# Altium integrated library CH340.IntLib: 1 symbol
Pins are listed as number, name and electrical type; pins without a type are passive.

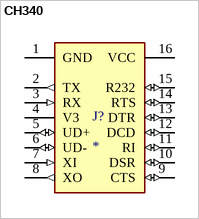
[diagram p0: symbol CH340]

## CH340
designator J?
CH340G USB 2.0 to UART (RS232/RS422/RS485) Bridge Interface Evaluation Board; MF: DFRobot; MP: CH340; SnapEDA_Link: https://www.snapeda.com/parts/CH340/DFRobot/view-part/?ref=snap; Package: None; Value: *; Check_prices: https://www.snapeda.com/parts/CH340/DFRobot/view-part/?ref=eda
footprint SOIC16
pins: 1 GND (power), 2 TX (out), 3 RX (in), 4 V3 (power), 5 UD+ (io), 6 UD- (io), 7 XI (in), 8 XO (out), 9 CTS (io), 10 DSR (io), 11 RI (io), 12 DCD (io), 13 DTR (io), 14 RTS (io), 15 R232 (io), 16 VCC (power)